# EAGLE library part MEA2010LC220T002 (library Filters)
FILTER LC 22PF 210MHZ SMD Manufacturer's datasheet <https://product.tdk.com/info/en/catalog/datasheets/3tf_commercial_signal_mea2010lc_en.pdf?ref_disty=digikey>
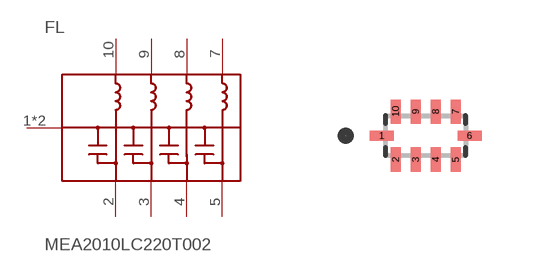
[diagram p1: symbol with the pads of 0804; footprint 0804]

Designator prefix FL

## MEA2010LC220T002 (CREATED_BY: PCBLayout.com; DIGIKEY_PN: 445-6719-2-ND; MANUFACTURER: TDK Corporation; MPN: MEA2010LC220T002; PACKAGE: 0804)  [0804]
1  GND  pas
2  CH1  pas
3  CH2  pas
4  CH3  pas
5  CH4  pas
6  GND  pas
7  H4  pas
8  H3  pas
9  H2  pas
10  H1  pas

## Footprint 0804 (pad centres in mm)
smd 0.6 x 0.25: 1 -1.1,0; 6 1.1,0
smd 0.25 x 0.6: 2 -0.75,-0.6; 3 -0.25,-0.6; 4 0.25,-0.6; 5 0.75,-0.6; 7 0.75,0.6; 8 0.25,0.6; 9 -0.25,0.6; 10 -0.75,0.6